# Altium schematic symbol library U_INA196.SchLib: 1 symbol
Pins are listed as number, name and electrical type; pins without a type are passive.

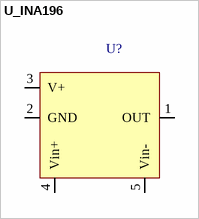
[diagram p0: symbol U_INA196]

## U_INA196
designator U?
pins: 1 OUT, 2 GND, 3 V+, 4 Vin+, 5 Vin-